# Altium schematic symbol library SCHEMATIC.SchLib: 3 symbols
Pins are listed as number, name and electrical type; pins without a type are passive.

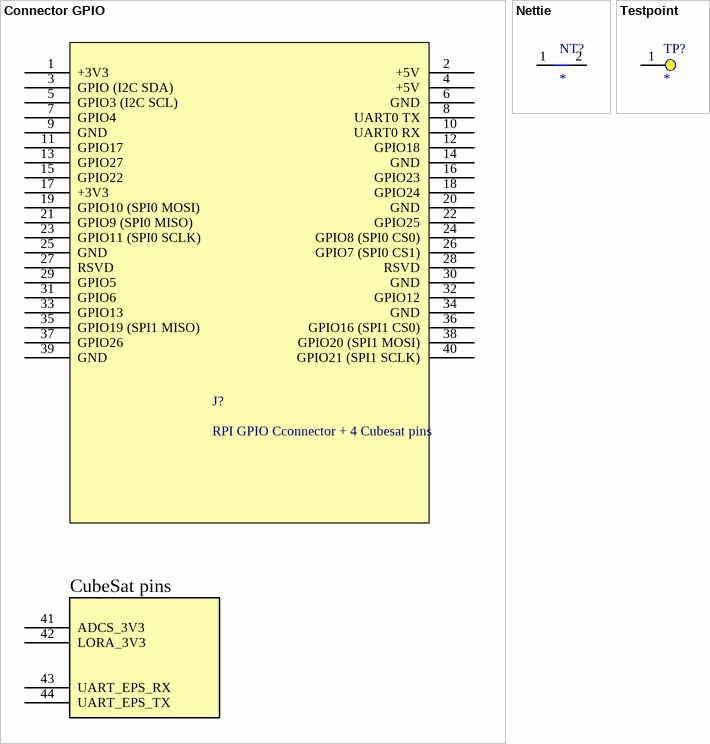
[diagram p0: symbols Connector GPIO to Testpoint]

## Connector GPIO
designator J?, comment RPI GPIO Cconnector + 4 Cubesat pins
footprint RPI GPIO
pins: 1 +3V3, 2 +5V, 3 GPIO (I2C SDA), 4 +5V, 5 GPIO3 (I2C SCL), 6 GND, 7 GPIO4, 8 UART0 TX, 9 GND, 10 UART0 RX, 11 GPIO17, 12 GPIO18, 13 GPIO27, 14  GND, 15 GPIO22, 16 GPIO23, 17 +3V3, 18 GPIO24, 19 GPIO10 (SPI0 MOSI), 20 GND, 21 GPIO9 (SPI0 MISO), 22 GPIO25, 23 GPIO11 (SPI0 SCLK), 24 GPIO8 (SPI0 CS0), 25 GND, 26 GPIO7 (SPI0 CS1), 27 RSVD, 28 RSVD, 29 GPIO5, 30 GND, 31 GPIO6, 32 GPIO12, 33 GPIO13, 34 GND, 35 GPIO19 (SPI1 MISO), 36 GPIO16 (SPI1 CS0), 37 GPIO26, 38 GPIO20 (SPI1 MOSI), 39 GND, 40 GPIO21 (SPI1 SCLK), 41 ADCS_3V3, 42 LORA_3V3, 43 UART_EPS_RX, 44 UART_EPS_TX
text: CubeSat pins

## Nettie
designator NT?
footprint NET_TIE
pins: 1, 2

## Testpoint
designator TP?
footprint Testpoint
pins: 1